# Altium schematic symbol library Schlib1.SchLib: 279 symbols (part 2 of 2)
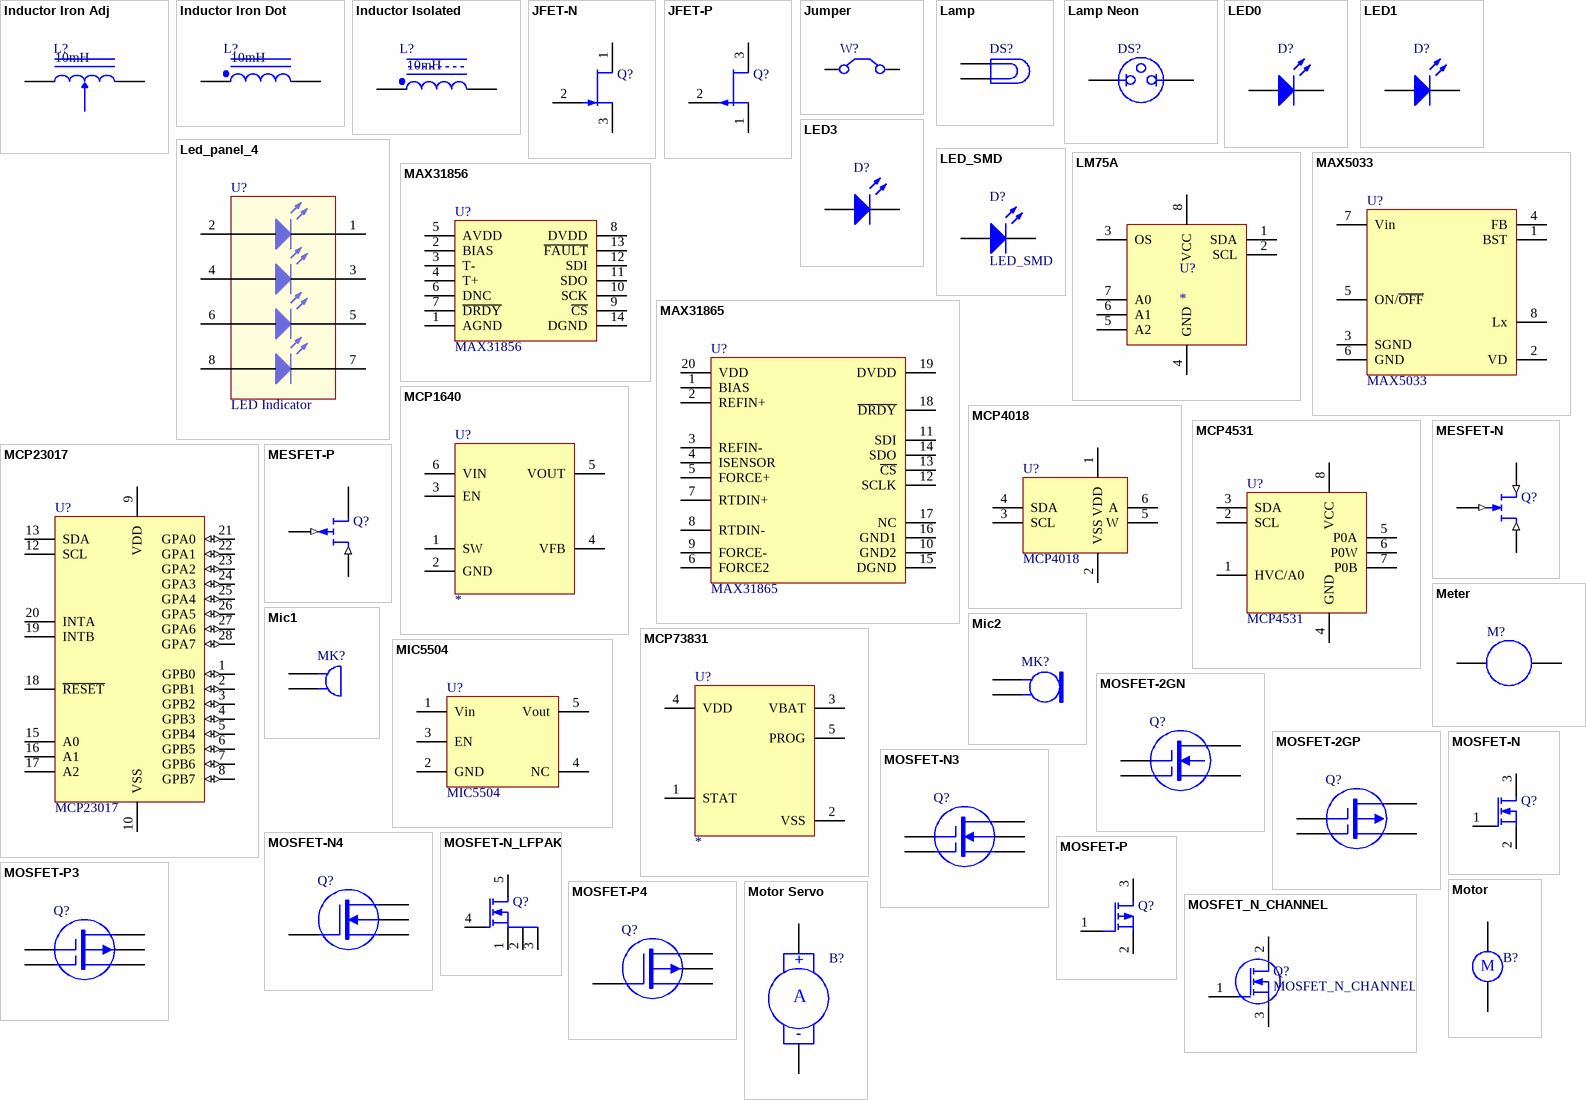
[diagram p8: symbols Inductor Iron Adj to Motor Servo]

## MOSFET-N
designator Q?
N-Channel MOSFET; PackageReference: E3; PackageDescription: TO, Flat Index; 3 In-Line, Axial Leads; Body Dia. 4.6mm; Lead Dia. 0.5 mm (max)
footprint E3 (TO, Flat Index; 3 In-Line, Axial Leads; Body Dia. 4.6mm; Lead Dia. 0.5 mm (max))
simulation model NMOS (MOSFET-N)
footprint SOT23_N_DIODE (SOT23, 3-Leads, Body 2.9x1.3mm, Pitch 0.95mm, Lead Span 2.3mm - Reverse Pinning, IPC Medium Density)
footprint D2PAK_N (D2-PAK, 4-Leads, Body 8.8x10.4mm, Pitch 2.54mm, Lead Span 15.1mm, IPC Medium Density)
pins: 1 G, 2 S, 3 D

## MOSFET-N3
designator Q?
Two-Gate, N-Channel MOSFET, Externally Terminated Substrate; PackageReference: T05A; PackageDescription: TO-220, Molded, 5 Lead, Straight
footprint T05A (TO, Thru-Hole, Vertical, Heatsink Mounted; 5 In-Line Leads; Pitch 1.70 mm)
pins: 1 G1, 2 G2, 3 D, 4 U, 5 S

## MOSFET-N4
designator Q?
N-Channel MOSFET, Externally Terminated Substrate; PackageReference: SOT-343; PackageDescription: 4-Pin SOT-343 Package 1.3 mm Pitch, 2.1 mm Lead Span
footprint SOT-343_N (SOT343, 4-Leads, Body 2x1.3 mm, Pitch 1.3mm, Lead Span 2.1mm, IPC Medium Density)
footprint SOT-343_L (SOT343, 4-Leads, Body 2x1.3 mm, Pitch 1.3mm, Lead Span 2.1mm, IPC High Density)
footprint SOT-343_M (SOT343, 4-Leads, Body 2x1.3 mm, Pitch 1.3mm, Lead Span 2.1mm, IPC Low Density)
simulation model NMOS (MOSFET-N)
pins: 1 G, 2 D, 3 U, 4 S

## MOSFET-N_LFPAK
designator Q?
N-Channel MOSFET; Digikey part number: 1727-1815-1-ND
footprint E3 (TO, Flat Index; 3 In-Line, Axial Leads; Body Dia. 4.6mm; Lead Dia. 0.5 mm (max))
simulation model NMOS (MOSFET-N)
footprint SOT23_N_DIODE (SOT23, 3-Leads, Body 2.9x1.3mm, Pitch 0.95mm, Lead Span 2.3mm - Reverse Pinning, IPC Medium Density)
footprint D2PAK_N (D2-PAK, 4-Leads, Body 8.8x10.4mm, Pitch 2.54mm, Lead Span 15.1mm, IPC Medium Density)
footprint LFPAK
pins: 1 S, 2 S, 3 S, 4 G, 5 D

## MOSFET-P
designator Q?
P-Channel MOSFET; PackageReference: E3; PackageDescription: TO, Flat Index; 3 In-Line, Axial Leads; Body Dia. 4.6mm; Lead Dia. 0.5 mm (max)
footprint E3 (TO, Flat Index; 3 In-Line, Axial Leads; Body Dia. 4.6mm; Lead Dia. 0.5 mm (max))
simulation model PMOS (MOSFET-P)
footprint SOT23_N_DIODE (SOT23, 3-Leads, Body 2.9x1.3mm, Pitch 0.95mm, Lead Span 2.3mm - Reverse Pinning, IPC Medium Density)
pins: 1 G, 2 S, 3 D

## MOSFET-P3
designator Q?
Two-Gate, P-Channel MOSFET, Externally Terminated Substrate; PackageReference: T05B; PackageDescription: TO, Thru-Hole, Vertical, Heatsink Mounted; 5 Bent Staggered Leads; Pitch 1.7 mm
footprint T05B (TO, Thru-Hole, Vertical, Heatsink Mounted; 5 Bent Staggered Leads; Pitch 1.7 mm)
pins: 1 G1, 2 G2, 3 D, 4 U, 5 S

## MOSFET-P4
designator Q?
P-Channel MOSFET, Externally Terminated Substrate; PackageReference: SOT223; PackageDescription: 4-Pin SOT-223 Package 2.3 mm Pitch, 7 mm Lead Span
footprint SOT223_N (SOT223, 4-Leads, Body 6.5x3.5mm, Pitch 2.3mm, Lead Span 7mm, IPC Medium Density)
footprint SOT223_L (SOT223, 4-Leads, Body 6.5x3.5mm, Pitch 2.3mm, Lead Span 7mm, IPC High Density)
footprint SOT223_M (SOT223, 4-Leads, Body 6.5x3.5mm, Pitch 2.3mm, Lead Span 7mm, IPC Low Density)
simulation model PMOS (MOSFET-P)
pins: 1 G, 2 D, 3 U, 4 S

## MOSFET_N_CHANNEL
designator Q?
N-Channel MOSFET; PackageReference: E3; PackageDescription: TO, Flat Index; 3 In-Line, Axial Leads; Body Dia. 4.6mm; Lead Dia. 0.5 mm (max)
simulation model NMOS (MOSFET-N)
footprint DPAK
footprint D2PAK_N (D2-PAK, 4-Leads, Body 8.8x10.4mm, Pitch 2.54mm, Lead Span 15.1mm, IPC Medium Density)
pins: 1 G, 2 D, 3 S

## Motor
designator B?
Motor, General Kind; PackageReference: RB5-10.5; PackageDescription: Capacitor (Radial); 2 Leads
footprint RB5-10.5 (Capacitor (Radial); 2 Leads)
pins: 1, 2
text: M

## Motor Servo
designator B?
Servo Motor; PackageReference: RAD-0.4; PackageDescription: Radial Cap, Thru-Hole; 2 Leads; 0.4 in Pin Spacing
footprint RAD-0.4 (Radial Cap, Thru-Hole; 2 Leads; 0.4 in Pin Spacing)
pins: 1 +, 2 -
text: A

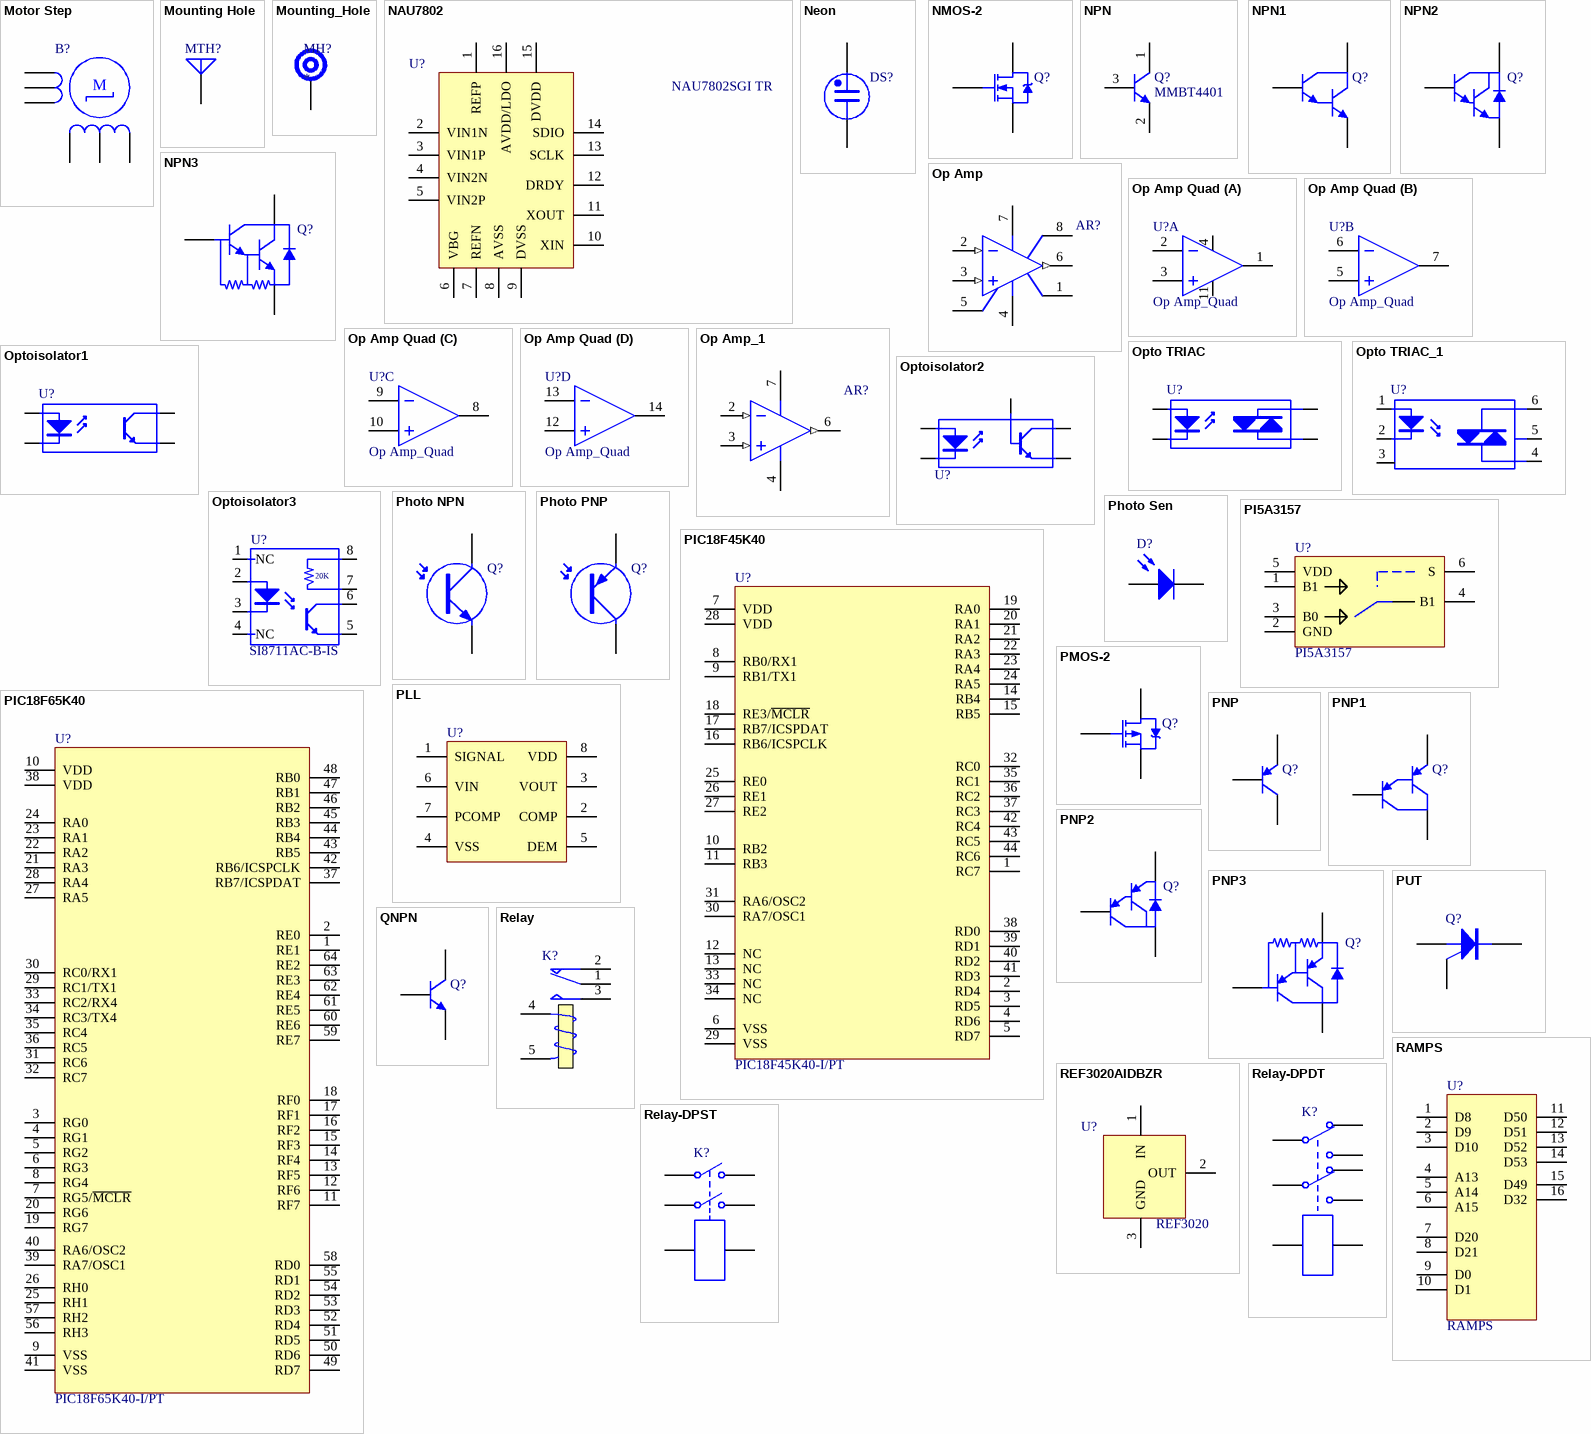
[diagram p4: symbols Motor Step to Relay-DPST]

## Motor Step
designator B?
Motor Stepper; PackageReference: DIP-6
footprint DIP-6 (DIP; 6 Leads; Row Spacing 7.62 mm; Pitch 2.54 mm)
pins: 1, 2, 3, 4, 5, 6
text: M

## Mounting Hole
designator MTH?
Generic Antenna; PackageReference: PIN1
footprint M3_Mounting_Hole (Mounting Hole for M3 screw)
pins: 1 A

## Mounting_Hole
designator MH?
footprint M3_Mounting_Hole (Mounting Hole for M3 screw)
pins: 1 MH

## NAU7802
designator U?, comment NAU7802SGI TR
24 Bit Analog to Digital Converter 2 Input 1 Sigma-Delta 16-SOP; ComponentLink2Description: Datasheet; ComponentLink2URL: http://www.nuvoton.com/resource-files/NAU7802%20Data%20Sheet%20V1.7.pdf; ComponentLink3Description: Digikey; ComponentLink3URL: https://www.digikey.ca/product-detail/en/nuvoton-technology-corporation-of-america/NAU7802SGI/NAU7802SGI-ND/2769782
footprint SOP-16L (TSOP, 16-Leads, Body 9.90x3.90mm, Pitch 1.27mm, IPC Medium Density)
pins: 1 REFP, 2 VIN1N, 3 VIN1P, 4 VIN2N, 5 VIN2P, 6 VBG, 7 REFN, 8 AVSS, 9 DVSS, 10 XIN, 11 XOUT, 12 DRDY, 13 SCLK, 14 SDIO, 15 DVDD, 16 AVDD/LDO

## Neon
designator DS?
Neon Bulb; PackageReference: PIN2
footprint PIN2 (Neon Bulb; 2 Leads)
pins: 1, 2

## NMOS-2
designator Q?
N-Channel Power MOSFET; Note: Pin 2 is electrically connected to pin 4.; PackageReference: TO-220AB; PackageDescription: TO, Thru-Hole, Vertical, Heatsink Mounted; 3 In-Line Leads; Pitch 2.54 mm
footprint TO-220AB (TO, Thru-Hole, Vertical, Heatsink Mounted; 3 In-Line Leads; Pitch 2.54 mm)
simulation model IRF1010 (Spice Subcircuit)
pins: 1 G, 2 D, 3 S

## NPN
designator Q?, comment MMBT4401
NPN Bipolar Transistor; Manufacturer: ON Semiconductor; Manufacturer Part Number: MMBT4401LT1G; PackageReference: SOT-23-3 (TO-236); PackageDescription: SOT-23-3 (TO-236); Digikey Part Number: MMBT4401LT1GOSCT-ND; Value: MMBT4401
simulation model NPN
signal-integrity model NPN
footprint SOT23_N (SOT23, 3-Leads, Body 2.9x1.3mm, Pitch 0.95mm, Lead Span 2.3mm - Reverse Pinning, IPC Medium Density)
pins: 1 C, 2 E, 3 B

## NPN1
designator Q?
NPN Darlington Bipolar Transistor; PackageReference: TO-92; PackageDescription: TO, Flat Index; 3 In-Line, Axial Leads; Body Dia. 4.6mm; Leads 0.41 x 0.39 mm (max)
footprint TO-92 (TO, Flat Index; 3 In-Line, Axial Leads; Body Dia. 4.6mm; Leads 0.41 x 0.39 mm (max))
simulation model NPN1 (Spice Subcircuit)
signal-integrity model NPN
pins: 1 C, 2 B, 3 E

## NPN2
designator Q?
NPN Darlington Bipolar Transistor; PackageReference: TO-226-AE; PackageDescription: TO, Flat Index; 3 In-Line, Axial Leads; Body Dia. 4.8mm; Leads 0.55 x 0.51 mm (max)
footprint TO-226-AE (TO, Flat Index; 3 In-Line, Axial Leads; Body Dia. 4.8mm; Leads 0.55 x 0.51 mm (max))
simulation model NPN2 (Spice Subcircuit)
signal-integrity model NPN
pins: 1 C, 2 B, 3 E

## NPN3
designator Q?
NPN Darlington Bipolar Transistor; PackageReference: TO-237-AA; PackageDescription: TO, Flat Index; 3 In-Line, Axial Leads; Body Dia. 4.8mm; Lead Dia. 0.56 mm (max)
footprint TO-237-AA (TO, Flat Index; 3 In-Line, Axial Leads; Body Dia. 4.8mm; Lead Dia. 0.56 mm (max))
simulation model NPN3 (Spice Subcircuit)
signal-integrity model NPN
pins: 1 C, 2 B, 3 E

## Op Amp
designator AR?
FET Operational Amplifier; PackageReference: H-08A; PackageDescription: Can; 8 Leads; Pin Circle Dia. 5.08 mm; Lead Dia. 0.53 mm (max)
footprint H-08A (Can; 8 Leads; Pin Circle Dia. 5.08 mm; Lead Dia. 0.53 mm (max))
simulation model AD645A (Spice Subcircuit)
pins: 1 OS NUL, 2 IN- (in), 3 IN+ (in), 4 V- (power), 5 OS NUL, 6 OUT (out), 7 V+ (power), 8 TAB

## Op Amp Quad
designator U?, comment Op Amp_Quad
Quad Operational Amplifier; PackageReference: H-08A; PackageDescription: Can; 8 Leads; Pin Circle Dia. 5.08 mm; Lead Dia. 0.53 mm (max); ComponentLink1Description: Digikey - MCP6L04T-E/ST; ComponentLink1URL: https://www.digikey.ca/product-detail/en/microchip-technology/MCP6L04T-E-ST/MCP6L04T-E-STCT-ND/2060123
footprint SOIC14 (SOIC, 14-Leads, Body 8.75x4.0mm, Pitch 1.27mm, IPC Low Density)
footprint TSSOP_14
part A pins: 1 OUT1, 2 IN1-, 3 IN1+, 4 V+ (power), 11 V- (power)
part B pins: 5 IN2+, 6 IN2-, 7 OUT2
part C pins: 8 OUT3, 9 IN3-, 10 IN3+
part D pins: 12 IN4+, 13 IN4-, 14 OUT4

## Op Amp_1
designator AR?
FET Operational Amplifier; PackageReference: H-08A; PackageDescription: Can; 8 Leads; Pin Circle Dia. 5.08 mm; Lead Dia. 0.53 mm (max)
footprint H-08A (Can; 8 Leads; Pin Circle Dia. 5.08 mm; Lead Dia. 0.53 mm (max))
simulation model AD645A (Spice Subcircuit)
pins: 2 IN- (in), 3 IN+ (in), 4 V- (power), 6 OUT (out), 7 V+ (power)

## Opto TRIAC
designator U?
Opto-Triac; PackageReference: NPSIP4A; PackageDescription: SIP; 4 Leads; Body 10 x 11.5 x 7.5 mm (typ); Pitch 2.54 mm
footprint NPSIP4A (SIP; 4 Leads; Body 10 x 11.5 x 7.5 mm (typ); Pitch 2.54 mm)
pins: 1 A, 2 K, 3 A/K, 4 A/K

## Opto TRIAC_1
designator U?
MOC3023S; PackageReference: NPSIP4A; PackageDescription: SIP; 4 Leads; Body 10 x 11.5 x 7.5 mm (typ); Pitch 2.54 mm
pins: 1 A, 2 K, 3 A/K, 4 A/K, 5 A/K, 6 A/K

## Optoisolator1
designator U?
4-Pin Phototransistor Optocoupler; PackageReference: DIP-4
footprint DIP-4 (DIP; 4 Leads; Row Spacing 7.62 mm; Pitch 2.54 mm)
footprint SOP-4 (6.5mm*4.6mm)
pins: 1 A "Anode", 2 K "Cathode", 3 E "Emitter", 4 C "Collector"

## Optoisolator2
designator U?
5 Pin Mini Flat Pack Optocoupler; PackageReference: SOP5(6); PackageDescription: Small Outline; 6 Leads (1 Absent); Body Width 4.4 mm; Pitch 1.27 mm
footprint SOP5(6) (Small Outline; 6 Leads (1 Absent); Body Width 4.4 mm; Pitch 1.27 mm)
simulation model OPTOISO (Spice Subcircuit)
pins: 1 A "Anode", 3 K "Cathode", 4 E "Emitter", 5 C "Collector", 6 B "Base"

## Optoisolator3
designator U?, comment SI8711AC-B-IS
4-Pin Phototransistor Optocoupler; PackageReference: DIP-4
footprint DIP-4 (DIP; 4 Leads; Row Spacing 7.62 mm; Pitch 2.54 mm)
footprint SOP-4 (6.5mm*4.6mm)
footprint SOIC-8 (SOIC, 8-Leads, Body 4.9x3.9mm, Pitch 1.27mm, IPC Medium Density)
pins: 1 NC "Anode", 2 A "Anode", 3 K "Cathode", 4 NC "Anode", 5 E "Emitter", 6 E "Emitter", 7 C "Collector", 8 VDD "Emitter"
text: 20K

## Photo NPN
designator Q?
NPN Phototransistor; PackageReference: TO-220_A
footprint TO-220_A (TO, Thru-Hole, Vertical, Heatsink Mounted; 3 In-Line Leads (1 Absent); Pitch 2.54 mm)
pins: 1 C, 3 E

## Photo PNP
designator Q?
PNP Phototransistor; PackageReference: TO-220_A
footprint TO-220_A (TO, Thru-Hole, Vertical, Heatsink Mounted; 3 In-Line Leads (1 Absent); Pitch 2.54 mm)
pins: 1 C, 3 E

## Photo Sen
designator D?
Photosensitive Diode; PackageReference: PIN2
footprint PIN2 (Photosensitive Diode; 2 Leads)
pins: 1 A, 2 K

## PI5A3157
designator U?
IC ANLG SW/MUX/DEMUX SPDT SC70-6; Digikey Part Number: PI5A3157CEXCT-ND
footprint SC70
pins: 1 B1, 2 GND, 3 B0, 4 B1, 5 VDD, 6 S

## PIC18F45K40
designator U?, comment PIC18F45K40-I/PT
TQFP Package
pins: 1 RC7, 2 RD4, 3 RD5, 4 RD6, 5 RD7, 6 VSS, 7 VDD, 8 RB0/RX1, 9 RB1/TX1, 10 RB2, 11 RB3, 12 NC, 13 NC, 14 RB4, 15 RB5, 16 RB6/ICSPCLK, 17 RB7/ICSPDAT, 18 RE3/~{MCLR}, 19 RA0, 20 RA1, 21 RA2, 22 RA3, 23 RA4, 24 RA5, 25 RE0, 26 RE1, 27 RE2, 28 VDD, 29 VSS, 30 RA7/OSC1, 31 RA6/OSC2, 32 RC0, 33 NC, 34 NC, 35 RC1, 36 RC2, 37 RC3, 38 RD0, 39 RD1, 40 RD2, 41 RD3, 42 RC4, 43 RC5, 44 RC6

## PIC18F65K40
designator U?, comment PIC18F65K40-I/PT
TQFP Package
footprint TQFP-64-Lead (64-Lead Plastic Thin Quad Flatpack (PT)-10x10x1 mm Body, 2.00 mm Footprint [TQFP])
pins: 1 RE1, 2 RE0, 3 RG0, 4 RG1, 5 RG2, 6 RG3, 7 RG5/~{MCLR}, 8 RG4, 9 VSS, 10 VDD, 11 RF7, 12 RF6, 13 RF5, 14 RF4, 15 RF3, 16 RF2, 17 RF1, 18 RF0, 19 RG7, 20 RG6, 21 RA3, 22 RA2, 23 RA1, 24 RA0, 25 RH1, 26 RH0, 27 RA5, 28 RA4, 29 RC1/TX1, 30 RC0/RX1, 31 RC6, 32 RC7, 33 RC2/RX4, 34 RC3/TX4, 35 RC4, 36 RC5, 37 RB7/ICSPDAT, 38 VDD, 39 RA7/OSC1, 40 RA6/OSC2, 41 VSS, 42 RB6/ICSPCLK, 43 RB5, 44 RB4, 45 RB3, 46 RB2, 47 RB1, 48 RB0, 49 RD7, 50 RD6, 51 RD5, 52 RD4, 53 RD3, 54 RD2, 55 RD1, 56 RH3, 57 RH2, 58 RD0, 59 RE7, 60 RE6, 61 RE5, 62 RE4, 63 RE3, 64 RE2

## PLL
designator U?
Generic Phase Locked Loop; PackageReference: DB008; PackageDescription: 8-Pin Plastic Small Outline Package 0.65 mm Pitch
footprint DB008_N (SOP, 8-Leads, Body 3x5.3mm, Pitch 0.65mm, IPC Medium Density)
footprint DB008_L (SOP, 8-Leads, Body 3x5.3mm, Pitch 0.65mm, IPC High Density)
footprint DB008_M (SOP, 8-Leads, Body 3x5.3mm, Pitch 0.65mm, IPC Low Density)
simulation model PLLx (Spice Subcircuit)
pins: 1 SIGNAL, 2 COMP, 3 VOUT, 4 VSS, 5 DEM, 6 VIN, 7 PCOMP, 8 VDD

## PMOS-2
designator Q?
P-Channel Power MOSFET; Note: Pin 4 not drawn and electrically connected to Pin 2.; PackageReference: TO-220AB; PackageDescription: TO, Thru-Hole, Vertical, Heatsink Mounted; 3 In-Line Leads; Pitch 2.54 mm
footprint TO-220AB (TO, Thru-Hole, Vertical, Heatsink Mounted; 3 In-Line Leads; Pitch 2.54 mm)
simulation model IRF9510 (Spice Subcircuit)
pins: 1 G, 2 D, 3 S

## PNP
designator Q?
PNP Bipolar Transistor; PackageReference: SOT-23B; PackageDescription: 3-Pin SOT-23 Package 0.95 mm Pitch, 2.4 mm Lead Span
footprint SOT-23B_N (SOT23, 3-Leads, Body 2.9x1.3mm, Pitch 0.95mm, Lead Span 2.4mm, IPC Medium Density)
footprint SOT-23B_L (SOT23, 3-Leads, Body 2.9x1.3mm, Pitch 0.95mm, Lead Span 2.4mm, IPC High Density)
footprint SOT-23B_M (SOT23, 3-Leads, Body 2.9x1.3mm, Pitch 0.95mm, Lead Span 2.4mm, IPC Low Density)
simulation model PNP
signal-integrity model PNP
pins: 1 C, 2 B, 3 E

## PNP1
designator Q?
PNP Darlington Bipolar Transistor; PackageReference: E3; PackageDescription: TO, Flat Index; 3 In-Line, Axial Leads; Body Dia. 4.6mm; Lead Dia. 0.5 mm (max)
footprint E3 (TO, Flat Index; 3 In-Line, Axial Leads; Body Dia. 4.6mm; Lead Dia. 0.5 mm (max))
simulation model PNP1 (Spice Subcircuit)
signal-integrity model PNP
pins: 1 E, 2 B, 3 C

## PNP2
designator Q?
PNP Darlington Bipolar Transistor; PackageReference: TO-226-AE; PackageDescription: TO, Flat Index; 3 In-Line, Axial Leads; Body Dia. 4.8mm; Leads 0.55 x 0.51 mm (max)
footprint TO-226-AE (TO, Flat Index; 3 In-Line, Axial Leads; Body Dia. 4.8mm; Leads 0.55 x 0.51 mm (max))
simulation model PNP2 (Spice Subcircuit)
signal-integrity model PNP
pins: 1 C, 2 B, 3 E

## PNP3
designator Q?
PNP Darlington Bipolar Transistor; PackageReference: TO-226-AE; PackageDescription: TO, Flat Index; 3 In-Line, Axial Leads; Body Dia. 4.8mm; Leads 0.55 x 0.51 mm (max)
footprint TO-226-AE (TO, Flat Index; 3 In-Line, Axial Leads; Body Dia. 4.8mm; Leads 0.55 x 0.51 mm (max))
simulation model PNP3 (Spice Subcircuit)
signal-integrity model PNP
pins: 1 C, 2 B, 3 E

## PUT
designator Q?
Programmable Unijunction Transistor; PackageReference: TO-52; PackageDescription: Can; 3 Leads; Pin Circle Dia. 2.54 mm; Lead Dia. 0.48 mm (max)
footprint TO-52 (Can; 3 Leads; Pin Circle Dia. 2.54 mm; Lead Dia. 0.48 mm (max))
simulation model PUT (Spice Subcircuit)
pins: 1 A, 2 G, 3 K

## QNPN
designator Q?
NPN Bipolar Transistor; PackageReference: SOT-23B; PackageDescription: 3-Pin SOT-23 Package 0.95 mm Pitch, 2.4 mm Lead Span
footprint SOT-23B_N (SOT23, 3-Leads, Body 2.9x1.3mm, Pitch 0.95mm, Lead Span 2.4mm, IPC Medium Density)
footprint SOT-23B_L (SOT23, 3-Leads, Body 2.9x1.3mm, Pitch 0.95mm, Lead Span 2.4mm, IPC High Density)
footprint SOT-23B_M (SOT23, 3-Leads, Body 2.9x1.3mm, Pitch 0.95mm, Lead Span 2.4mm, IPC Low Density)
simulation model QNPN (NPN)
signal-integrity model NPN
pins: 1 C, 2 B, 3 E

## RAMPS
designator U?
pins: 1 D8, 2 D9, 3 D10, 4 A13, 5 A14, 6 A15, 7 D20, 8 D21, 9 D0, 10 D1, 11 D50, 12 D51, 13 D52, 14 D53, 15 D49, 16 D32

## REF3020AIDBZR
designator U?, comment REF3020
IC VREF SERIES 2.048V SOT23-3; ComponentLink1Description: Digikey; ComponentLink1URL: https://www.digikey.ca/product-detail/en/texas-instruments/REF3020AIDBZR/296-26321-6-ND/2255609; ComponentLink2Description: Datasheet; ComponentLink2URL: http://www.ti.com/lit/ds/symlink/ref3012.pdf; Digikey Part Number: 296-26321-6-ND
footprint SOT23-3 (SOT23, 3-Leads, Body 2.92x2.37mm, Pitch 0.95mm, IPC Medium Density)
pins: 1 IN, 2 OUT, 3 GND

## Relay
designator K?
SPDT Relay; PackageReference: MODULE5B
footprint MODULE5B (DIP; 5 Round Pins; Row Space 15.24 mm; Pitch 2.54 mm)
simulation model SPDTRELAY (Spice Subcircuit)
pins: 1 COM, 2 NC, 3 NO, 4 T1, 5 T2

## Relay-DPDT
designator K?
Dual-Pole Dual-Throw Relay; PackageReference: DIP-P8; PackageDescription: Relay; 8 Leads
footprint DIP-P8 (Dual-Pole Dual-Throw Relay; 8 Leads)
simulation model DPDTRELAY (Spice Subcircuit)
pins: 1, 2, 3, 4, 5, 6, 7, 8

## Relay-DPST
designator K?
Dual-Pole Single-Throw Relay; PackageReference: MODULE6
footprint MODULE6 (DIP; 6 Round Pins; Row Space 20.32 mm; Pitch 2.54 mm)
simulation model DPSTRELAY (Spice Subcircuit)
pins: 1, 2, 3, 4, 5, 6

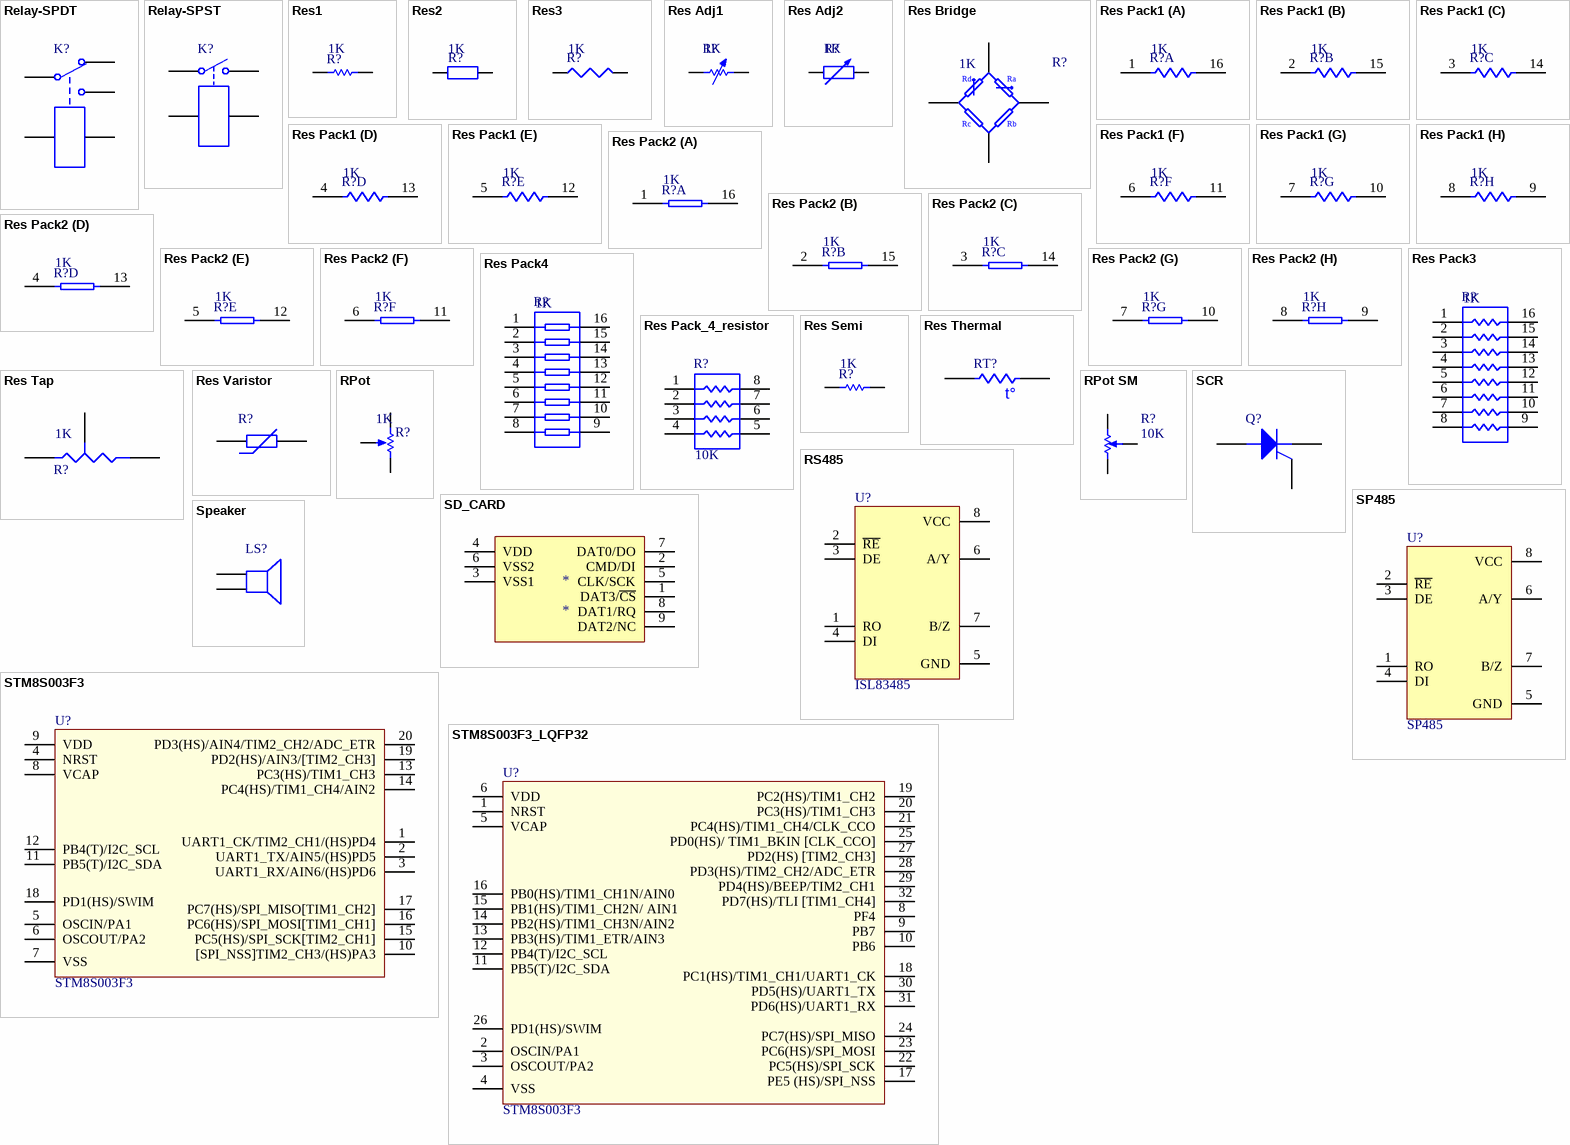
[diagram p5: symbols Relay-SPDT to STM8S003F3_LQFP32]

## Relay-SPDT
designator K?
Single-Pole Dual-Throw Relay; PackageReference: MODULE5B
footprint MODULE5B (DIP; 5 Round Pins; Row Space 15.24 mm; Pitch 2.54 mm)
simulation model SPDTRELAY (Spice Subcircuit)
pins: 1, 2, 3, 4, 5

## Relay-SPST
designator K?
Single-Pole Single-Throw Relay; PackageReference: MODULE4
footprint MODULE4 (DIP; 4 Round Pins; Row Space 27.94 mm; Pitch 15.24 mm)
simulation model SPSTRELAY (Spice Subcircuit)
pins: 1, 2, 3, 4

## Res1
designator R?  value 1K
Resistor; PackageReference: AXIAL-0.3; PackageDescription: Axial Device, Thru-Hole; 2 Leads; 0.3 in Pin Spacing
footprint AXIAL-0.3 (Axial Device, Thru-Hole; 2 Leads; 0.3 in Pin Spacing)
simulation model RESISTOR (Resistor)
signal-integrity model Res
footprint R1206 (Chip Capacitor, Body 3.2x1.6mm, IPC High Density)
footprint R0603 (Chip Capacitor, Body 1.6x0.8mm, IPC High Density)
footprint R0805 (Chip Resistor)
footprint 2512
pins: 1, 2

## Res2
designator R?  value 1K
Resistor; PackageReference: AXIAL-0.4; PackageDescription: Axial Device, Thru-Hole; 2 Leads; 0.4 in Pin Spacing
footprint AXIAL-0.4 (Axial Device, Thru-Hole; 2 Leads; 0.4 in Pin Spacing)
simulation model RESISTOR (Resistor)
signal-integrity model Res
pins: 1, 2

## Res3
designator R?  value 1K
Resistor; PackageReference: J1-0603; PackageDescription: Chip Resistor
footprint J1-0603 (Chip Resistor, Body 1.6x0.8mm, IPC High Density)
footprint 14-1210 (Chip Resistor, Body 3.2x2.5mm, IPC High Density)
footprint 12Z-2010 (Chip Resistor, Body 5.0x2.5mm, IPC High Density)
footprint RESC6332 (Chip Resistor, Body 6.3x3.2mm, IPC High Density)
simulation model RESISTOR (Resistor)
signal-integrity model Res
pins: 1, 2

## Res Adj1
designator R?  value 1K
Variable Resistor; PackageReference: AXIAL-0.7; PackageDescription: Axial Device, Thru-Hole; 2 Leads; 0.7 in Pin Spacing
footprint AXIAL-0.7 (Axial Device, Thru-Hole; 2 Leads; 0.7 in Pin Spacing)
simulation model VRES (Variable Resistor)
signal-integrity model Res Adj
pins: 1, 2

## Res Adj2
designator R?  value 1K
Variable Resistor; PackageReference: AXIAL-0.6; PackageDescription: Axial Device, Thru-Hole; 2 Leads; 0.6 in Pin Spacing
footprint AXIAL-0.6 (Axial Device, Thru-Hole; 2 Leads; 0.6 in Pin Spacing)
simulation model VRES (Variable Resistor)
signal-integrity model Res Adj
pins: 1, 2

## Res Bridge
designator R?  value 1K
Resistor Bridge; PackageReference: P04A
footprint P04A (TO, Thru-Hole, Vertical, Heatsink Mounted; 4 In-Line Leads; Pitch 2.54 mm)
signal-integrity model Res Bridge
pins: 1, 2, 3, 4
text: Rd; Ra; Rc; Rb

## Res Pack1
designator R?  value 1K
Isolated Resistor Network - Parts; PackageReference: SOIC16; PackageDescription: 16-Pin Small Outline Integrated Circuit 1.27 mm Pitch
footprint SOIC16_N (SOIC, 16-Leads, Body 9.9x3.9mm, Pitch 1.27mm, IPC Medium Density)
footprint SOIC16_L (SOIC, 16-Leads, Body 9.9x3.9mm, Pitch 1.27mm, IPC High Density)
footprint SOIC16_M (SOIC, 16-Leads, Body 9.9x3.9mm, Pitch 1.27mm, IPC Low Density)
simulation model RESISTOR (Resistor)
signal-integrity model Res Pack
part A pins: 1, 16
part B pins: 2, 15
part C pins: 3, 14
part D pins: 4, 13
part E pins: 5, 12
part F pins: 6, 11
part G pins: 7, 10
part H pins: 8, 9

## Res Pack2
designator R?  value 1K
Isolated Resistor Network - Parts; PackageReference: DIP-16
footprint DIP-16 (DIP; 16 Leads; Row Spacing 7.62 mm; Pitch 2.54 mm)
simulation model RESISTOR (Resistor)
signal-integrity model Res Pack
part A pins: 1, 16
part B pins: 2, 15
part C pins: 3, 14
part D pins: 4, 13
part E pins: 5, 12
part F pins: 6, 11
part G pins: 7, 10
part H pins: 8, 9

## Res Pack3
designator R?  value 1K
Isolated Resistor Network; PackageReference: SO-16; PackageDescription: 16-Pin Small Outline Integrated Circuit 1.27 mm Pitch
footprint SO-16_N (SOIC, 16-Leads, Body 9.9x3.9mm, Pitch 1.27mm, IPC Medium Density)
footprint SO-16_L (SOIC, 16-Leads, Body 9.9x3.9mm, Pitch 1.27mm, IPC High Density)
footprint SO-16_M (SOIC, 16-Leads, Body 9.9x3.9mm, Pitch 1.27mm, IPC Low Density)
simulation model respack_8 (Spice Subcircuit)
pins: 1, 2, 3, 4, 5, 6, 7, 8, 9, 10, 11, 12, 13, 14, 15, 16

## Res Pack4
designator R?  value 1K
Isolated Resistor Network; PackageReference: SSOP16; PackageDescription: 16-Pin Plastic Small Outline Package 0.65 mm Pitch
footprint SSOP16_N (SOP, 16-Leads, Body 6.2x5.3mm, Pitch 0.65mm, IPC Medium Density)
footprint SSOP16_L (SOP, 16-Leads, Body 6.2x5.3mm, Pitch 0.65mm, IPC High Density)
footprint SSOP16_M (SOP, 16-Leads, Body 6.2x5.3mm, Pitch 0.65mm, IPC Low Density)
simulation model respack_8 (Spice Subcircuit)
pins: 1, 2, 3, 4, 5, 6, 7, 8, 9, 10, 11, 12, 13, 14, 15, 16

## Res Pack_4_resistor
designator R?  value 10K
Isolated Resistor Network; PackageReference: SO-16; PackageDescription: 16-Pin Small Outline Integrated Circuit 1.27 mm Pitch
footprint SO-16_N (SOIC, 16-Leads, Body 9.9x3.9mm, Pitch 1.27mm, IPC Medium Density)
footprint SO-16_L (SOIC, 16-Leads, Body 9.9x3.9mm, Pitch 1.27mm, IPC High Density)
footprint SO-16_M (SOIC, 16-Leads, Body 9.9x3.9mm, Pitch 1.27mm, IPC Low Density)
simulation model respack_8 (Spice Subcircuit)
footprint Resistor_array
pins: 1, 2, 3, 4, 5, 6, 7, 8

## Res Semi
designator R?  value 1K
Semiconductor Resistor; PackageReference: AXIAL-0.5; PackageDescription: Axial Device, Thru-Hole; 2 Leads; 0.5 in Pin Spacing
footprint AXIAL-0.5 (Axial Device, Thru-Hole; 2 Leads; 0.5 in Pin Spacing)
simulation model RES (Semiconductor Resistor)
signal-integrity model Res Semi
pins: 1, 2

## Res Tap
designator R?  value 1K
Tapped Resistor; PackageReference: VR3; PackageDescription: Variable Resistor, Thru-Hole; 3 Leads
footprint VR3 (Thru-Hole; 3 Leads)
simulation model POT (Potentiometer)
signal-integrity model Res Tap
pins: 1 A, 2 B, 3 TAP

## Res Thermal
designator RT?
Thermistor; PackageReference: 6-0805; PackageDescription: Chip Resistor 0805 Case Size
footprint 6-0805_N (Chip Resistor, Body 2.0x1.2mm, IPC Medium Density)
footprint 6-0805_L (Chip Resistor, Body 2.0x1.2mm, IPC High Density)
footprint 6-0805_M (Chip Resistor, Body 2.0x1.2mm, IPC Low Density)
pins: 1, 2
text: t°

## Res Varistor
designator R?
Varistor (Voltage-Sensitive Resistor); PackageReference: 6-0805; PackageDescription: Chip Resistor 0805 Case Size
footprint 6-0805_N (Chip Resistor, Body 2.0x1.2mm, IPC Medium Density)
footprint 6-0805_L (Chip Resistor, Body 2.0x1.2mm, IPC High Density)
footprint 6-0805_M (Chip Resistor, Body 2.0x1.2mm, IPC Low Density)
pins: 1, 2

## RPot
designator R?  value 1K
Potentiometer; PackageReference: VR5; PackageDescription: Variable Resistor, Thru-Hole; 3 Leads
footprint VR5 (Thru-Hole; 3 Leads)
simulation model POT (Potentiometer)
pins: 1 TOP, 2 BOT, 3 TAP
1 alternate drawing of the same symbol

## RPot SM
designator R?, comment 10K
Square Trimming Potentiometer; Manufacturer Part Number: TC33X-2-103E; Manufacturer: Bourns Inc.; PackageReference: POT4MM-2; PackageDescription: Square Trimming Potentiometer; Digikey Part Number: TC33X-103ECT-ND; Value: 10K
footprint POT4MM-2 (Square Trimming Potentiometer)
footprint POT3MM (Square Trimming Potentiometer)
pins: CCW -, CW +, W
1 alternate drawing of the same symbol

## RS485
designator U?, comment ISL83485
ComponentLink1Description: Digikey - ISL83485; ComponentLink1URL: https://www.digikey.ca/product-detail/en/renesas-electronics-america-inc/ISL83485IBZ/ISL83485IBZ-ND/821562; ComponentLink2Description: Datasheet; ComponentLink2URL: https://www.intersil.com/content/dam/Intersil/documents/isl8/isl83483-85-88-90-91.pdf
footprint SO8_N (SOIC, 8-Leads, Body 4.9x3.9mm, Pitch 1.27mm, IPC Medium Density)
pins: 1 RO, 2 ~{RE}, 3 DE, 4 DI, 5 GND, 6 A/Y, 7 B/Z, 8 VCC

## SCR
designator Q?
Silicon Controlled Rectifier; PackageReference: TO-220-AB
footprint TO-220-AB (TO, Thru-Hole, Vertical, Heatsink Mounted; 3 In-Line Leads; Pitch 2.54 mm)
simulation model SCR (Spice Subcircuit)
pins: 1 A, 2 G, 3 K

## SD_CARD
designator *
pins: 1 DAT3/~{CS}, 2 CMD/DI, 3 VSS1 (power), 4 VDD (power), 5 CLK/SCK, 6 VSS2 (power), 7 DAT0/DO, 8 DAT1/RQ, 9 DAT2/NC

## SP485
designator U?
ComponentLink1Description: Digikey - ISL83485; ComponentLink1URL: https://www.digikey.ca/product-detail/en/renesas-electronics-america-inc/ISL83485IBZ/ISL83485IBZ-ND/821562; ComponentLink2Description: Datasheet; ComponentLink2URL: https://www.intersil.com/content/dam/Intersil/documents/isl8/isl83483-85-88-90-91.pdf; Digikey part number: 1016-1169-5-ND
footprint SO8_N (SOIC, 8-Leads, Body 4.9x3.9mm, Pitch 1.27mm, IPC Medium Density)
pins: 1 RO, 2 ~{RE}, 3 DE, 4 DI, 5 GND, 6 A/Y, 7 B/Z, 8 VCC

## Speaker
designator LS?
Loudspeaker; PackageReference: PIN2
footprint PIN2 (Loudspeaker; 2 Leads)
pins: 1, 2

## STM8S003F3
designator U?
footprint TSSOP_20
pins: 1 UART1_CK/TIM2_CH1/(HS)PD4, 2 UART1_TX/AIN5/(HS)PD5, 3 UART1_RX/AIN6/(HS)PD6, 4 NRST, 5 OSCIN/PA1, 6 OSCOUT/PA2, 7 VSS, 8 VCAP, 9 VDD, 10 [SPI_NSS]TIM2_CH3/(HS)PA3, 11 PB5(T)/I2C_SDA, 12 PB4(T)/I2C_SCL, 13 PC3(HS)/TIM1_CH3, 14 PC4(HS)/TIM1_CH4/AIN2, 15 PC5(HS)/SPI_SCK[TIM2_CH1], 16 PC6(HS)/SPI_MOSI[TIM1_CH1], 17 PC7(HS)/SPI_MISO[TIM1_CH2], 18 PD1(HS)/SWIM, 19 PD2(HS)/AIN3/[TIM2_CH3], 20 PD3(HS)/AIN4/TIM2_CH2/ADC_ETR

## STM8S003F3_LQFP32
designator U?, comment STM8S003F3
footprint LQFP32
pins: 1 NRST, 2 OSCIN/PA1, 3 OSCOUT/PA2, 4 VSS, 5 VCAP, 6 VDD, 8 PF4, 9 PB7, 10 PB6, 11 PB5(T)/I2C_SDA, 12 PB4(T)/I2C_SCL, 13 PB3(HS)/TIM1_ETR/AIN3, 14 PB2(HS)/TIM1_CH3N/AIN2, 15 PB1(HS)/TIM1_CH2N/ AIN1, 16 PB0(HS)/TIM1_CH1N/AIN0, 17 PE5 (HS)/SPI_NSS, 18 PC1(HS)/TIM1_CH1/UART1_CK, 19 PC2(HS)/TIM1_CH2, 20 PC3(HS)/TIM1_CH3, 21 PC4(HS)/TIM1_CH4/CLK_CCO, 22 PC5(HS)/SPI_SCK, 23 PC6(HS)/SPI_MOSI, 24 PC7(HS)/SPI_MISO, 25 PD0(HS)/ TIM1_BKIN [CLK_CCO], 26 PD1(HS)/SWIM, 27 PD2(HS) [TIM2_CH3], 28 PD3(HS)/TIM2_CH2/ADC_ETR, 29 PD4(HS)/BEEP/TIM2_CH1, 30 PD5(HS)/UART1_TX, 31 PD6(HS)/UART1_RX, 32 PD7(HS)/TLI [TIM1_CH4]

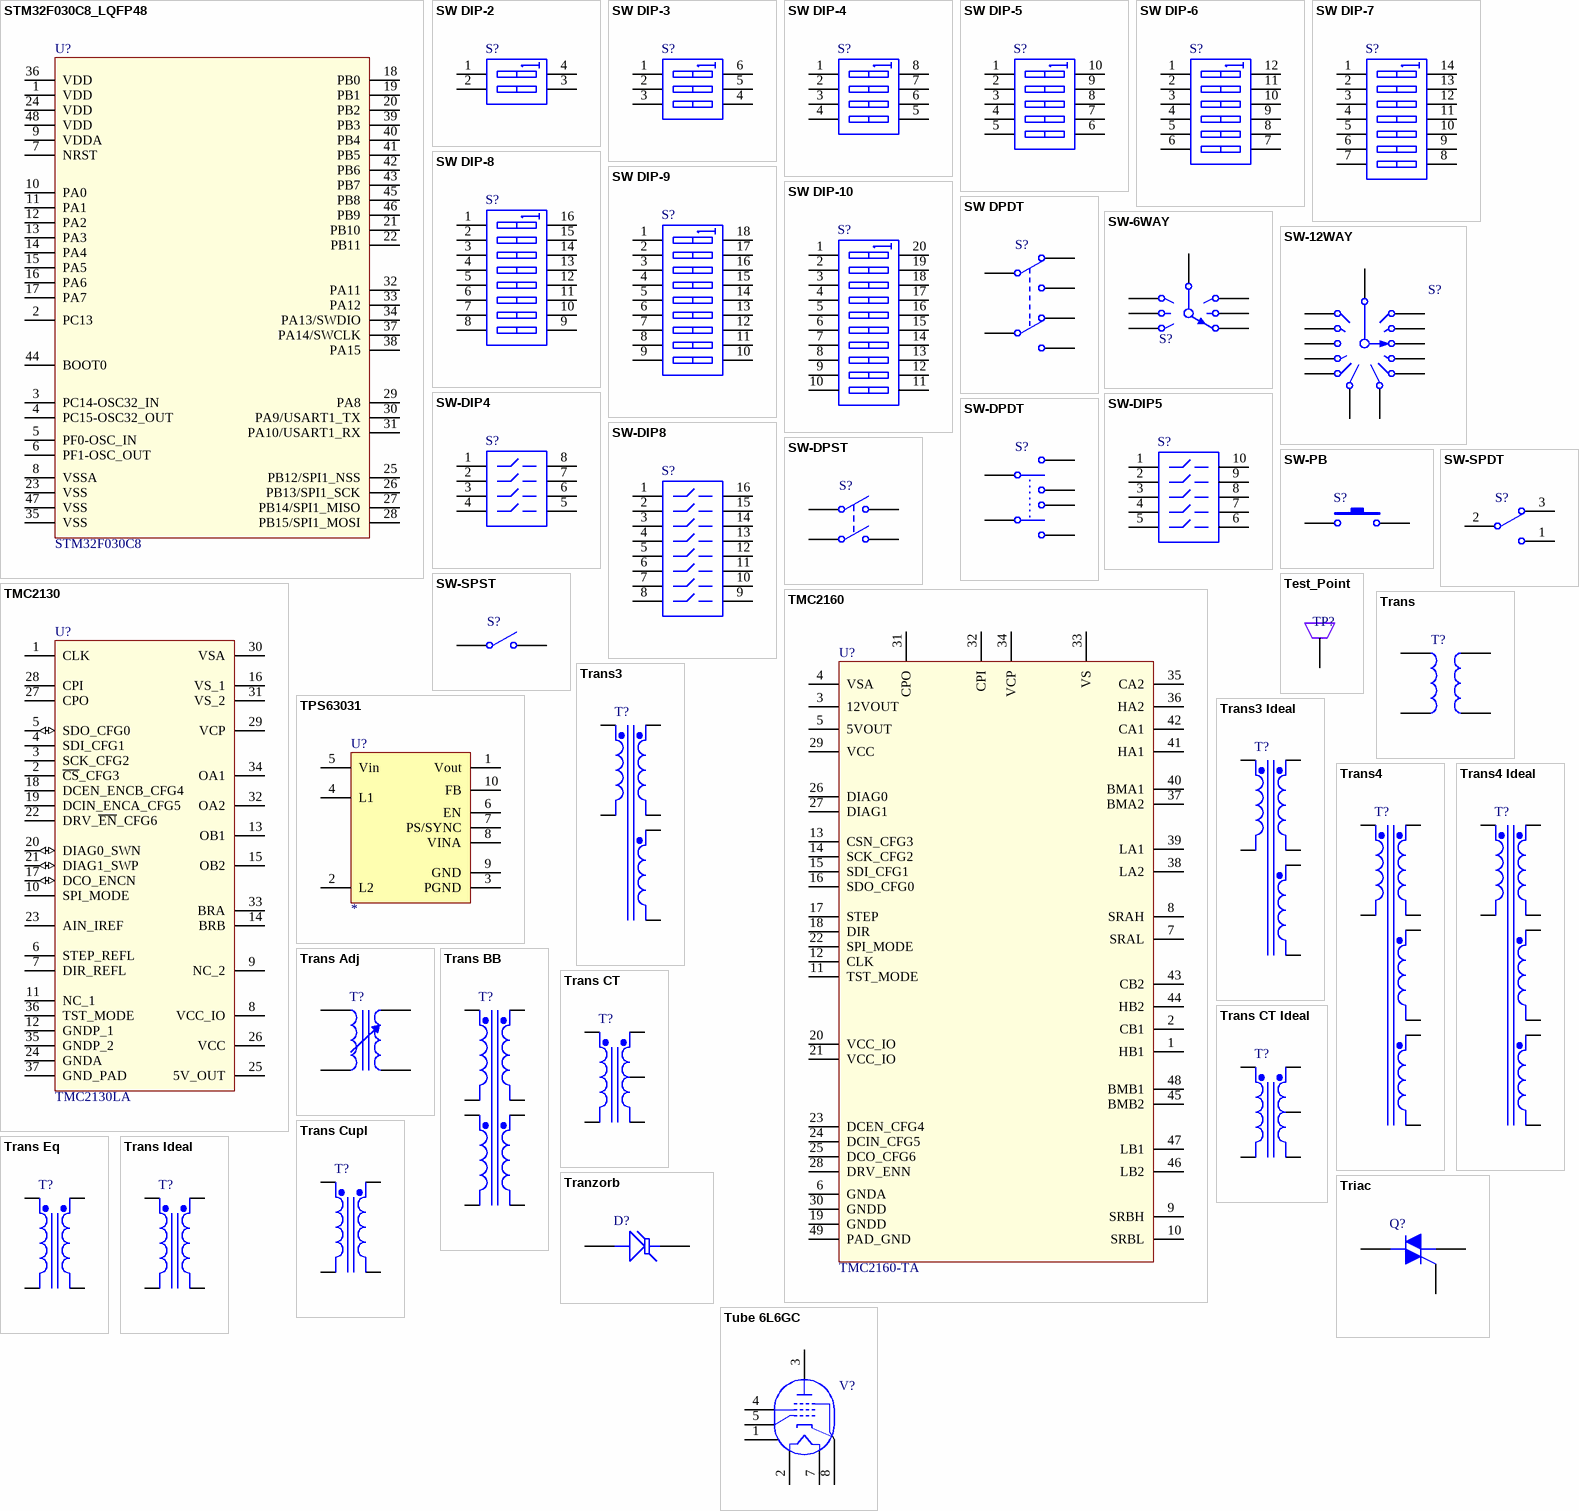
[diagram p6: symbols STM32F030C8_LQFP48 to Tube 6L6GC]

## STM32F030C8_LQFP48
designator U?, comment STM32F030C8
footprint LQFP48
pins: 1 VDD, 2 PC13, 3 PC14-OSC32_IN, 4 PC15-OSC32_OUT, 5 PF0-OSC_IN, 6 PF1-OSC_OUT, 7 NRST, 8 VSSA, 9 VDDA, 10 PA0, 11 PA1, 12 PA2, 13 PA3, 14 PA4, 15 PA5, 16 PA6, 17 PA7, 18 PB0, 19 PB1, 20 PB2, 21 PB10, 22 PB11, 23 VSS, 24 VDD, 25 PB12/SPI1_NSS, 26 PB13/SPI1_SCK, 27 PB14/SPI1_MISO, 28 PB15/SPI1_MOSI, 29 PA8, 30 PA9/USART1_TX, 31 PA10/USART1_RX, 32 PA11, 33 PA12, 34 PA13/SWDIO, 35 VSS, 36 VDD, 37 PA14/SWCLK, 38 PA15, 39 PB3, 40 PB4, 41 PB5, 42 PB6, 43 PB7, 44 BOOT0, 45 PB8, 46 PB9, 47 VSS, 48 VDD

## SW DIP-2
designator S?
DIP Switch, 2 Position, SPST; PackageReference: DIP-4; Digikey Part Number: CT2192MST-ND
footprint DIP-4 (DIP; 4 Leads; Row Spacing 7.62 mm; Pitch 2.54 mm)
simulation model dpsw2 (Spice Subcircuit)
footprint DIP_SWITCH_2
pins: 1 A1, 2 A2, 3 B2, 4 B1

## SW DIP-3
designator S?
DIP Switch, 3 Position, SPST; PackageReference: DIP-6
footprint DIP-6 (DIP; 6 Leads; Row Spacing 7.62 mm; Pitch 2.54 mm)
simulation model dpsw3 (Spice Subcircuit)
pins: 1 A1, 2 A2, 3 A3, 4 B3, 5 B2, 6 B1

## SW DIP-4
designator S?
DIP Switch, 4 Position, SPST; PackageReference: SO8; PackageDescription: 8-Pin Small Outline Integrated Circuit 1.27 mm Pitch
simulation model dpsw4 (Spice Subcircuit)
footprint DipSwitch-4
pins: 1 A1, 2 A2, 3 A3, 4 A4, 5 B4, 6 B3, 7 B2, 8 B1

## SW DIP-5
designator S?
DIP Switch, 5 Position, SPST; PackageReference: N10A
footprint N10A (DIP; 10 Leads; Row Spacing 7.62 mm; Pitch 2.54 mm)
simulation model dpsw5 (Spice Subcircuit)
pins: 1 A1, 2 A2, 3 A3, 4 A4, 5 A5, 6 B5, 7 B4, 8 B3, 9 B2, 10 B1

## SW DIP-6
designator S?
DIP Switch, 6 Position, SPST; PackageReference: DIP-12/SW; PackageDescription: DIP Switch; 12 Leads
footprint DIP-12/SW (DIP Switch; 12 Leads)
simulation model dpsw6 (Spice Subcircuit)
pins: 1 A1, 2 A2, 3 A3, 4 A4, 5 A5, 6 A6, 7 B6, 8 B5, 9 B4, 10 B3, 11 B2, 12 B1

## SW DIP-7
designator S?
DIP Switch, 7 Position, SPST; PackageReference: DIP-14
footprint DIP-14 (DIP; 14 Leads; Row Spacing 7.62 mm; Pitch 2.54 mm)
simulation model dpsw7 (Spice Subcircuit)
pins: 1 A1, 2 A2, 3 A3, 4 A4, 5 A5, 6 A6, 7 A7, 8 B7, 9 B6, 10 B5, 11 B4, 12 B3, 13 B2, 14 B1

## SW DIP-8
designator S?
DIP Switch, 8 Position, SPST; PackageReference: DIP_SW_8WAY_SMD; PackageDescription: DIP Switch; 16 Leads
footprint DIP_SW_8WAY_SMD (DIP Switch; 16 Leads)
simulation model dpsw8 (Spice Subcircuit)
footprint DipSwitch-8
pins: 1 A1, 2 A2, 3 A3, 4 A4, 5 A5, 6 A6, 7 A7, 8 A8, 9 B8, 10 B7, 11 B6, 12 B5, 13 B4, 14 B3, 15 B2, 16 B1

## SW DIP-9
designator S?
DIP Switch, 9 Position, SPST; PackageReference: DIP-18
simulation model dpsw9 (Spice Subcircuit)
footprint DipSwitch-12
pins: 1 A1, 2 A2, 3 A3, 4 A4, 5 A5, 6 A6, 7 A7, 8 A8, 9 A9, 10 B9, 11 B8, 12 B7, 13 B6, 14 B5, 15 B4, 16 B3, 17 B2, 18 B1

## SW DIP-10
designator S?
DIP Switch, 10 Position, SPST; PackageReference: DIP-18
simulation model dpsw9 (Spice Subcircuit)
footprint DipSwitch-14
pins: 1 A1, 2 A2, 3 A3, 4 A4, 5 A5, 6 A6, 7 A7, 8 A8, 9 A9, 10 A10, 11 B10, 12 B9, 13 B8, 14 B7, 15 B6, 16 B5, 17 B4, 18 B3, 19 B2, 20 B1

## SW DPDT
designator S?
Switch; PackageReference: SOT23-6; PackageDescription: 6-Pin SOT-23 Package 0.95 mm Pitch, 2.7 mm Lead Span
footprint SOT23-6_N (SOT23, 6-Leads, Body 2.9x1.6mm, Pitch 0.95mm, Lead Span 2.7mm, IPC Medium Density)
footprint SOT23-6_L (SOT23, 6-Leads, Body 2.9x1.6mm, Pitch 0.95mm, Lead Span 2.7mm, IPC High Density)
footprint SOT23-6_M (SOT23, 6-Leads, Body 2.9x1.6mm, Pitch 0.95mm, Lead Span 2.7mm, IPC Low Density)
pins: 1 COMMON1, 2 NC1, 3 NO1, 4 NC2, 5 COMMON2, 6 NO2

## SW-6WAY
designator S?
6 Way Switch; PackageReference: SW-7; PackageDescription: Switch; 7 Leads
footprint SW-7 (Switch; 7 Leads)
pins: 1, 2, 3, 4, 5, 6, 7

## SW-12WAY
designator S?
12 Way Switch; PackageReference: DIP-13(14)
footprint DIP-13(14) (DIP; 14 Leads (1 Absent); Row Spacing 7.62 mm; Pitch 2.54 mm)
pins: 1, 2, 3, 5, 6, 7, 8, 9, 10, 11, 12, 13, 14

## SW-DIP4
designator S?
DIP Switch; PackageReference: DIP-8
footprint DIP-8 (DIP; 8 Leads; Row Spacing 7.62 mm; Pitch 2.54 mm)
simulation model dpsw4 (Spice Subcircuit)
pins: 1, 2, 3, 4, 5, 6, 7, 8

## SW-DIP5
designator S?
DIP Switch; PackageReference: DIP-8
footprint DIP-8 (DIP; 8 Leads; Row Spacing 7.62 mm; Pitch 2.54 mm)
simulation model dpsw4 (Spice Subcircuit)
pins: 1, 2, 3, 4, 5, 6, 7, 8, 9, 10

## SW-DIP8
designator S?
4009 Series DIP Switch, Raised actuator; PackageReference: DIP-16-KEY; PackageDescription: DIP; 16 Leads; Row Spacing 7.62 mm; Pitch 2.54 mm
footprint DIP-16-KEY (DIP; 16 Leads; Row Spacing 7.62 mm; Pitch 2.54 mm)
simulation model dpsw8 (Spice Subcircuit)
pins: 1, 2, 3, 4, 5, 6, 7, 8, 9, 10, 11, 12, 13, 14, 15, 16

## SW-DPDT
designator S?
Double-Pole, Double-Throw Switch; PackageReference: DPDT-6; PackageDescription: Switch; 6 Leads
footprint DPDT-6 (Switch; 6 Leads)
pins: 1, 2, 3, 4, 5, 6

## SW-DPST
designator S?
Double-Pole, Single-Throw Switch; PackageReference: DPST-4; PackageDescription: Switch; 4 Leads
footprint DPST-4 (Switch; 4 Leads)
pins: 1 COMMON1, 2 NO1, 3 COMMON2, 4 NO2

## SW-PB
designator S?
Switch; PackageReference: SPST-2; PackageDescription: Switch; 2 Leads
footprint SPST-2 (Switch; 2 Leads)
footprint SPST-2_SMD (Switch; 2 Leads)
footprint Bouton_6mm_SMD
pins: 1, 2

## SW-SPDT
designator S?
SPDT Subminiature Toggle Switch, Right Angle Mounting, Vertical Actuation; PackageReference: TL36WW15050; PackageDescription: Switch; 4 Leads
footprint TL36WW15050 (Switch; 4 Leads)
footprint 3_way_switch
pins: 1, 2, 3

## SW-SPST
designator S?
Single-Pole, Single-Throw Switch; PackageReference: SPST-2; PackageDescription: Switch; 2 Leads
footprint SPST-2 (Switch; 2 Leads)
pins: 1 COMMON, 2 NO

## Test_Point
designator TP?, comment Test Point  (value not drawn)
footprint TEST_POINT_1 (Test_point_TH)
footprint TEST_POINT_2 (Test_point_SM)
footprint wire_24AWG
footprint Wire_20AWG
footprint PIN_RECEPTACLE
pins: 1 TP

## TMC2130
designator U?, comment TMC2130LA
ComponentLink1Description: Digikey; ComponentLink1URL: https://www.digikey.ca/product-detail/en/trinamic-motion-control-gmbh/TMC2130-LA-T/1460-1130-1-ND/5155767; Digikey Part Number: 1460-1130-1-ND
footprint TMC2130-LA
pins: 1 CLK, 2 ~{CS}_CFG3, 3 SCK_CFG2, 4 SDI_CFG1, 5 SDO_CFG0 (io), 6 STEP_REFL, 7 DIR_REFL, 8 VCC_IO (power), 9 NC_2, 10 SPI_MODE, 11 NC_1, 12 GNDP_1, 13 OB1, 14 BRB, 15 OB2, 16 VS_1 (power), 17 DCO_ENCN (io), 18 DCEN_ENCB_CFG4, 19 DCIN_ENCA_CFG5, 20 DIAG0_SWN (io), 21 DIAG1_SWP (io), 22 DRV_~{EN}_CFG6, 23 AIN_IREF, 24 GNDA, 25 5V_OUT (power), 26 VCC (power), 27 CPO, 28 CPI, 29 VCP (power), 30 VSA (power), 31 VS_2 (power), 32 OA2, 33 BRA, 34 OA1, 35 GNDP_2, 36 TST_MODE, 37 GND_PAD

## TMC2160
designator U?, comment TMC2160-TA
ComponentLink1Description: Digikey; ComponentLink1URL: https://www.digikey.ca/product-detail/en/trinamic-motion-control-gmbh/TMC2130-LA-T/1460-1130-1-ND/5155767; Digikey Part Number: 1460-1130-1-ND
footprint TQFP-48-Lead
pins: 1 HB1, 2 CB1, 3 12VOUT, 4 VSA, 5 5VOUT, 6 GNDA, 7 SRAL, 8 SRAH (power), 9 SRBH, 10 SRBL, 11 TST_MODE, 12 CLK, 13 CSN_CFG3, 14 SCK_CFG2, 15 SDI_CFG1, 16 SDO_CFG0 (power), 17 STEP, 18 DIR, 19 GNDD, 20 VCC_IO, 21 VCC_IO, 22 SPI_MODE, 23 DCEN_CFG4, 24 DCIN_CFG5, 25 DCO_CFG6 (power), 26 DIAG0 (power), 27 DIAG1, 28 DRV_ENN, 29 VCC (power), 30 GNDD (power), 31 CPO (power), 32 CPI, 33 VS, 34 VCP, 35 CA2, 36 HA2, 37 BMA2, 38 LA2, 39 LA1, 40 BMA1, 41 HA1, 42 CA1, 43 CB2, 44 HB2, 45 BMB2, 46 LB2, 47 LB1, 48 BMB1, 49 PAD_GND

## TPS63031
designator U?
High Efficiency Single Inductor Buck-Boost Converter With 1-A Switches / Package : VSON
footprint VSON(10)
pins: 1 Vout, 2 L2, 3 PGND, 4 L1, 5 Vin, 6 EN, 7 PS/SYNC, 8 VINA, 9 GND, 10 FB

## Trans
designator T?
Transformer; PackageReference: TRANS; PackageDescription: Transformer; 4 Leads
footprint TRANS (Transformer; 4 Leads)
simulation model TRANSFORMER (Transformer)
pins: 1, 2, 3, 4

## Trans3
designator T?
Three-winding Transformer (Non-Ideal); PackageReference: TRF_6; PackageDescription: Transformer; 6 Leads
footprint TRF_6 (Transformer; 6 Leads)
simulation model NI3WTRANS (Spice Subcircuit)
pins: 1 Pri+, 2 Pri-, 3 Sec1+, 4 Sec1-, 5 Sec2+, 6 Sec2-

## Trans3 Ideal
designator T?
Three-winding Transformer (Ideal); PackageReference: TRF_6; PackageDescription: Transformer; 6 Leads
footprint TRF_6 (Transformer; 6 Leads)
simulation model IDEAL3W (Spice Subcircuit)
pins: 1 Pri+, 2 Pri-, 3 Sec1+, 4 Sec1-, 5 Sec2+, 6 Sec2-

## Trans4
designator T?
Four-winding Transformer (Non-Ideal); PackageReference: TRF_8; PackageDescription: Transformer; 8 Leads
footprint TRF_8 (Transformer; 8 Leads)
simulation model NI4WTRANS (Spice Subcircuit)
pins: 1 Pri+, 2 Pri-, 3 Sec1+, 4 Sec1-, 5 Sec2+, 6 Sec2-, 7 Sec3+, 8 Sec3-

## Trans4 Ideal
designator T?
Four-winding Transformer (Ideal); PackageReference: TRF_8; PackageDescription: Transformer; 8 Leads
footprint TRF_8 (Transformer; 8 Leads)
simulation model IDEAL4W (Spice Subcircuit)
pins: 1 Pri+, 2 Pri-, 3 Sec1+, 4 Sec1-, 5 Sec2+, 6 Sec2-, 7 Sec3+, 8 Sec3-

## Trans Adj
designator T?
Variable Transformer; PackageReference: TRF_4; PackageDescription: Transformer; 4 Leads
footprint TRF_4 (Transformer; 4 Leads)
simulation model TRANSFORMER (Transformer)
pins: 1, 2, 3, 4

## Trans BB
designator T?
Buck-boost Transformer (Ideal); PackageReference: TRF_8; PackageDescription: Transformer; 8 Leads
footprint TRF_8 (Transformer; 8 Leads)
simulation model IDEAL4W (Spice Subcircuit)
pins: 1 Pri1+, 2 Pri1-, 3 Pri2+, 4 Pri2-, 5 Sec1+, 6 Sec1-, 7 Sec2+, 8 Sec2-

## Trans CT
designator T?
Center-Tapped Transformer (Coupled Inductor Model); PackageReference: TRF_5; PackageDescription: Transformer; 5 Leads
footprint TRF_5 (Transformer; 5 Leads)
simulation model TRANSFORMER (Transformer)
pins: 1 Pri+, 2 Pri-, 3 Sec+, 4 SecCT, 5 Sec-

## Trans CT Ideal
designator T?
Center-Tapped Transformer (Ideal); PackageReference: TRF_5; PackageDescription: Transformer; 5 Leads
footprint TRF_5 (Transformer; 5 Leads)
simulation model IDEALTRANSCT (Spice Subcircuit)
pins: 1 Pri+, 2 Pri-, 3 Sec+, 4 SecCT, 5 Sec-

## Trans Cupl
designator T?
Transformer (Coupled Inductor Model); PackageReference: TRF_4; PackageDescription: Transformer; 4 Leads
footprint TRF_4 (Transformer; 4 Leads)
simulation model TRANSFORMER (Transformer)
pins: 1 Pri+, 2 Pri-, 3 Sec+, 4 Sec-

## Trans Eq
designator T?
Transformer (Equivalent Circuit Model); PackageReference: TRF_4; PackageDescription: Transformer; 4 Leads
footprint TRF_4 (Transformer; 4 Leads)
simulation model TRANS (Spice Subcircuit)
pins: 1 Pri+, 2 Pri-, 3 Sec+, 4 Sec-

## Trans Ideal
designator T?
Transformer (Ideal); PackageReference: TRF_4; PackageDescription: Transformer; 4 Leads
footprint TRF_4 (Transformer; 4 Leads)
simulation model IDEALTRANS (Spice Subcircuit)
pins: 1 Pri+, 2 Pri-, 3 Sec+, 4 Sec-

## Tranzorb
designator D?
Transient Voltage Suppression (TVS) Diode; PackageReference: DO-7; PackageDescription: Axial Lead Diode
footprint DO-7 (Diode, Axial; Body 7 x 2.7 mm (LxDia. max), Lead Dia. 0.53 mm (max))
pins: 1 A, 2 K

## Triac
designator Q?
Silicon Bidirectional Triode Thyristor; Note: Pin 2 is electrically connected to Pin 4 (TAB); PackageReference: 369-03; PackageDescription: TO, Thru-Hole, Vertical, Heatsink Mounted; 3 In-Line Leads; Pitch 2.28 mm
footprint 369-03 (TO, Thru-Hole, Vertical, Heatsink Mounted; 3 In-Line Leads; Pitch 2.28 mm)
simulation model MAC15A8 (Spice Subcircuit)
footprint DPAK
pins: 1 M1, 2 M2, 3 G

## Tube 6L6GC
designator V?
Beam Power Pentode; Note: Pin 6 is omitted from the tube package, Pin 1 is Not Connected; PackageReference: VTUBE-7; PackageDescription: Vacuum Tube; 7 Leads
footprint VTUBE-7 (Vacuum Tube; 7 Leads)
simulation model 6L6GC (Spice Subcircuit)
pins: 1 NC, 2 H, 3 PT, 4 GT2, 5 GT1, 7 H, 8 G3, KT

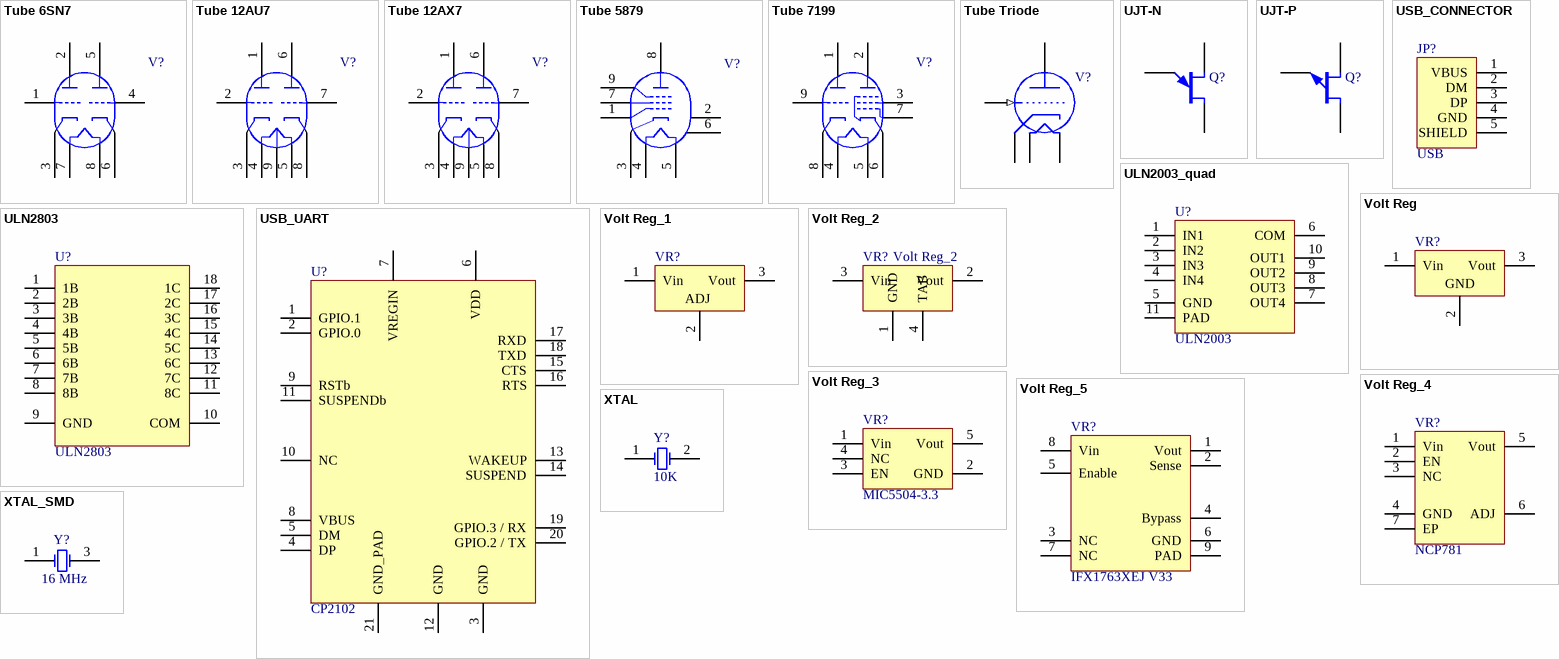
[diagram p7: symbols Tube 6SN7 to XTAL_SMD]

## Tube 6SN7
designator V?
Medium Mu Dual Triode; PackageReference: VTUBE-8; PackageDescription: Vacuum Tube; 8 Leads
footprint VTUBE-8 (Vacuum Tube; 8 Leads)
simulation model 6SN7 (Spice Subcircuit)
pins: 1 GT1, 2 PT1, 3 KT1, 4 GT2, 5 PT2, 6 KT2, 7 H, 8 H

## Tube 12AU7
designator V?
Medium Mu Dual Triode; PackageReference: VTUBE-9; PackageDescription: Vacuum Tube; 9 Leads
footprint VTUBE-9 (Vacuum Tube; 9 Leads)
simulation model 12AU7 (Spice Subcircuit)
pins: 1 PT1, 2 GT1, 3 KT1, 4 H, 5 H, 6 PT2, 7 GT2, 8 KT2, 9 HM

## Tube 12AX7
designator V?
High Mu Dual Triode; PackageReference: VTUBE-9; PackageDescription: Vacuum Tube; 9 Leads
footprint VTUBE-9 (Vacuum Tube; 9 Leads)
simulation model 12AX7 (Spice Subcircuit)
pins: 1 PT1, 2 GT1, 3 KT1, 4 H, 5 H, 6 PT2, 7 GT2, 8 KT2, 9 HM

## Tube 5879
designator V?
Sharp Cutoff Pentode; Note: Pins 2 and 6 are not connected.; PackageReference: VTUBE-9; PackageDescription: Vacuum Tube; 9 Leads
footprint VTUBE-9 (Vacuum Tube; 9 Leads)
pins: 1 GT1, 2 NC, 3 KT, 4 H, 5 H, 6 NC, 7 GT2, 8 PT, 9 GT3

## Tube 7199
designator V?
Medium Mu Triode and Sharp Cutoff Pentode; PackageReference: VTUBE-9; PackageDescription: Vacuum Tube; 9 Leads
footprint VTUBE-9 (Vacuum Tube; 9 Leads)
simulation model 7199 (Spice Subcircuit)
pins: 1 PT1, 2 PT2, 3 GT2, 4 H, 5 H, 6 KT2, 7 GT3, 8 KT1, 9 GT1

## Tube Triode
designator V?
Thyratron; PackageReference: VTUBE-5; PackageDescription: Vacuum Tube; 5 Leads
footprint VTUBE-5 (Vacuum Tube; 5 Leads)
pins: 1 GRID (in), 2 PLATE, 3 CATHODE, 4 FILAMENT1, 5 FILAMENT2

## UJT-N
designator Q?
Unijunction Transistor with N-Type Base; PackageReference: TO-39; PackageDescription: Can; 3 Leads; Pin Circle Dia. 5.08 mm; Lead Dia. 0.48 mm (max)
footprint TO-39 (Can; 3 Leads; Pin Circle Dia. 5.08 mm; Lead Dia. 0.48 mm (max))
simulation model NUJT (Spice Subcircuit)
pins: 1 E, 2 B1, 3 B2

## UJT-P
designator Q?
Unijunction Transistor with P-Type Base; PackageReference: TO-205AF; PackageDescription: Can; 3 Leads; Pin Circle Dia. 5.08 mm; Lead Dia. 0.53 mm (max)
footprint TO-205AF (Can; 3 Leads; Pin Circle Dia. 5.08 mm; Lead Dia. 0.53 mm (max))
pins: 1 E, 2 B1, 3 B2

## ULN2003_quad
designator U?, comment ULN2003
NPN Bipolar Transistor; Digikey part number: ULN2003F12FN-7DICT-ND
simulation model NPN
signal-integrity model NPN
footprint DFN-10
pins: 1 IN1, 2 IN2, 3 IN3, 4 IN4, 5 GND, 6 COM, 7 OUT4, 8 OUT3, 9 OUT2, 10 OUT1, 11 PAD

## ULN2803
designator U?
footprint SOIC18_wide (SOIC, 16-Leads, Body 9.9x9.4mm, Pitch 1.27mm, IPC Low Density)
pins: 1 1B, 2 2B, 3 3B, 4 4B, 5 5B, 6 6B, 7 7B, 8 8B, 9 GND, 10 COM, 11 8C, 12 7C, 13 6C, 14 5C, 15 4C, 16 3C, 17 2C, 18 1C

## USB_CONNECTOR
designator JP?, comment USB
footprint USB CONNECTOR (USB B CONNECTOR)
pins: 1 VBUS, 2 DM, 3 DP, 4 GND, 5 SHIELD

## USB_UART
designator U?, comment CP2102
footprint QFN4X4-20 (Quad Flat No Lead; 20 Terminals; Body 4 x 4 mm; Pitch 0.5 mm)
pins: 1 GPIO.1, 2 GPIO.0, 3 GND (power), 4 DP, 5 DM, 6 VDD (power), 7 VREGIN, 8 VBUS, 9 RSTb, 10 NC, 11 SUSPENDb, 12 GND (power), 13 WAKEUP, 14 SUSPEND, 15 CTS, 16 RTS, 17 RXD, 18 TXD, 19 GPIO.3 / RX, 20 GPIO.2 / TX, 21 GND_PAD (power) "PAD"

## Volt Reg
designator VR?
Voltage Regulator; PackageReference: D2PAK; PackageDescription: 3-Pin Transistor Outline Package 2.54 mm Pitch, 15.1 mm Lead Span
footprint D2PAK_N (D2-PAK, 4-Leads, Body 8.8x10.4mm, Pitch 2.54mm, Lead Span 15.1mm, IPC Medium Density)
footprint D2PAK_L (D2-PAK, 4-Leads, Body 8.8x10.4mm, Pitch 2.54mm, Lead Span 15.1mm, IPC High Density)
footprint D2PAK_M (D2-PAK, 4-Leads, Body 8.8x10.4mm, Pitch 2.54mm, Lead Span 15.1mm, IPC Low Density)
footprint D2PAK_Heatsink (D2-PAK, 4-Leads, Body 8.8x10.4mm, Pitch 2.54mm, Lead Span 15.1mm, IPC Medium Density)
footprint DPAK
pins: 1 Vin, 2 GND, 3 Vout

## Volt Reg_1
designator VR?
Voltage Regulator; PackageReference: D2PAK; PackageDescription: 3-Pin Transistor Outline Package 2.54 mm Pitch, 15.1 mm Lead Span
footprint D2PAK_N (D2-PAK, 4-Leads, Body 8.8x10.4mm, Pitch 2.54mm, Lead Span 15.1mm, IPC Medium Density)
footprint D2PAK_L (D2-PAK, 4-Leads, Body 8.8x10.4mm, Pitch 2.54mm, Lead Span 15.1mm, IPC High Density)
footprint D2PAK_M (D2-PAK, 4-Leads, Body 8.8x10.4mm, Pitch 2.54mm, Lead Span 15.1mm, IPC Low Density)
footprint D2PAK_Heatsink (D2-PAK, 4-Leads, Body 8.8x10.4mm, Pitch 2.54mm, Lead Span 15.1mm, IPC Medium Density)
footprint DPAK
pins: 1 Vin, 2 GND, 3 Vout
text: ADJ

## Volt Reg_2
designator VR?
Voltage Regulator; PackageReference: D2PAK; PackageDescription: 3-Pin Transistor Outline Package 2.54 mm Pitch, 15.1 mm Lead Span
footprint D2PAK_N (D2-PAK, 4-Leads, Body 8.8x10.4mm, Pitch 2.54mm, Lead Span 15.1mm, IPC Medium Density)
footprint SOT223_N (SOT223, 4-Leads, Body 6.5x3.5mm, Pitch 2.3mm, Lead Span 7mm, IPC Medium Density)
pins: 1 GND, 2 Vout, 3 Vin, 4 TAB

## Volt Reg_3
designator VR?, comment MIC5504-3.3
Voltage Regulator; PackageReference: D2PAK; PackageDescription: 3-Pin Transistor Outline Package 2.54 mm Pitch, 15.1 mm Lead Span; Digikey Part Number: 576-4764-1-ND
footprint D2PAK_N (D2-PAK, 4-Leads, Body 8.8x10.4mm, Pitch 2.54mm, Lead Span 15.1mm, IPC Medium Density)
footprint SOT223_N (SOT223, 4-Leads, Body 6.5x3.5mm, Pitch 2.3mm, Lead Span 7mm, IPC Medium Density)
footprint SOT23-5 (SOT23, 5-Leads)
pins: 1 Vin, 2 GND, 3 EN, 4 NC, 5 Vout

## Volt Reg_4
designator VR?, comment NCP781
Voltage Regulator; PackageReference: D2PAK; PackageDescription: 3-Pin Transistor Outline Package 2.54 mm Pitch, 15.1 mm Lead Span; Digikey Part Number: 576-4764-1-ND
footprint VDFN-6
pins: 1 Vin, 2 EN, 3 NC, 4 GND, 5 Vout, 6 ADJ, 7 EP

## Volt Reg_5
designator VR?, comment IFX1763XEJ V33
Voltage Regulator; PackageReference: D2PAK; PackageDescription: 3-Pin Transistor Outline Package 2.54 mm Pitch, 15.1 mm Lead Span; Digikey Part Number: 576-4764-1-ND
pins: 1 Vout, 2 Sense, 3 NC, 4 Bypass, 5 Enable, 6 GND, 7 NC, 8 Vin, 9 PAD

## XTAL
designator Y?, comment 10K
Crystal Oscillator; PackageReference: HC49/US; PackageDescription: 0.449" L x 0.185" W (11.40mm x 4.70mm)
footprint R38 (Crystal, Thru-Hole; 2 Leads; Body 3.1 x 8.2 mm (Dia.xH))
simulation model XTAL (Spice Subcircuit)
footprint Crystal_32k (Crystal, Thru-Hole; 2 Leads;)
footprint HC49/US (Crystal; HC49/US)
pins: 1 OSC1, 2 OSC2

## XTAL_SMD
designator Y?, comment 16 MHz
Crystal Oscillator; PackageReference: HC49/US; PackageDescription: 0.449" L x 0.185" W (11.40mm x 4.70mm)
footprint R38 (Crystal, Thru-Hole; 2 Leads; Body 3.1 x 8.2 mm (Dia.xH))
simulation model XTAL (Spice Subcircuit)
footprint Crystal_32k (Crystal, Thru-Hole; 2 Leads;)
footprint HC49/US (Crystal; HC49/US)
footprint Crystal_4-SMD
pins: 1 OSC1, 3 OSC2